# EAGLE library part N-DUAL (library MOSFET)
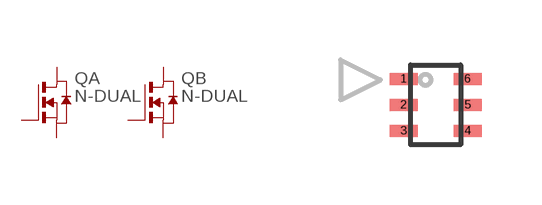
[diagram p0: symbol with the pads of SOT363; footprint SOT363]

Designator prefix Q; gates A=N_MOSFET B=N_MOSFET

## N-DUALSOT363, N-DUALBSD235NSOT363 (MARK: X6s; MF: Infineon; MPN: BSD235N)  [SOT363]
1  A:S  pas
2  A:G  pas
3  B:D  pas
4  B:S  pas
5  B:G  pas
6  A:D  pas

## Footprint SOT363 (pad centres in mm)
smd 0.7 x 0.3: 1 -0.8,0.65; 2 -0.8,0; 3 -0.8,-0.65; 4 0.8,-0.65; 5 0.8,0; 6 0.8,0.65